# EAGLE library part BORON (library Particle Boron)
Particle Boron
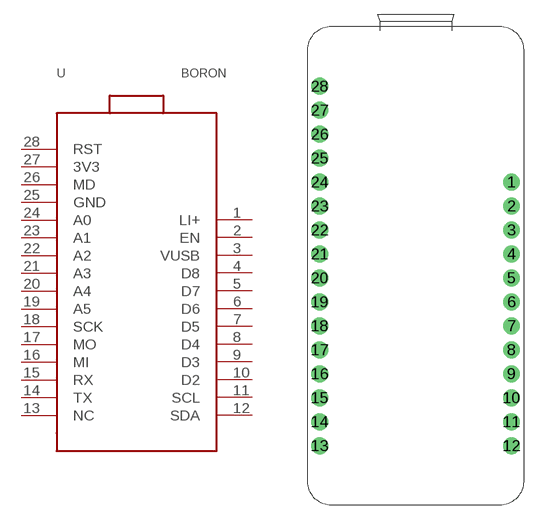
[diagram p0: symbol with the pads of BORON; footprint BORON]

Designator prefix -

## BORONBORON  [BORON]
1  LI+
2  EN
3  VUSB
4  D8
5  D7
6  D6
7  D5
8  D4
9  D3
10  D2
11  SCL
12  SDA
13  NC
14  TX
15  RX
16  MI
17  MO
18  SCK
19  A5
20  A4
21  A3
22  A2
23  A1
24  A0
25  GND
26  MD
27  3V3
28  RST

## Footprint BORON (pad centres in mm)
The Particle Boron uses two single row 0.1" pitch male header pins. One of them is 16 pin while the other is 12 pin. It can be mounted with matching 0.1" pitch female headers with a typical height of 0.335" (8.5mm).
drill 1.016 pad 1.778: 1 -16.51,-3.835; 2 -16.51,-6.375; 3 -16.51,-8.915; 4 -16.51,-11.455; 5 -16.51,-13.995; 6 -16.51,-16.535; 7 -16.51,-19.075; 8 -16.51,-21.615; 9 -16.51,-24.155; 10 -16.51,-26.695; 11 -16.51,-29.235; 12 -16.51,-31.775; 13 -36.83,-31.775; 14 -36.83,-29.235; 15 -36.83,-26.695; 16 -36.83,-24.155; 17 -36.83,-21.615; 18 -36.83,-19.075; 19 -36.83,-16.535; 20 -36.83,-13.995; 21 -36.83,-11.455; 22 -36.83,-8.915; 23 -36.83,-6.375; 24 -36.83,-3.835; 25 -36.83,-1.295; 26 -36.83,1.245; 27 -36.83,3.785; 28 -36.83,6.325